# EAGLE library part QX9920 (library dc-dc)
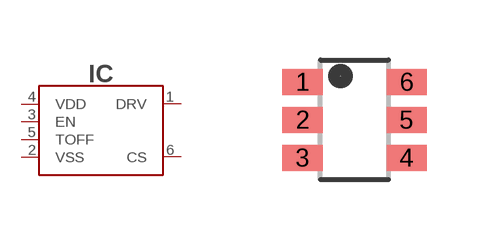
[diagram p7: symbol with the pads of SOT23-6; footprint SOT23-6]

Designator prefix IC

## QX9920 (LCSC#: C236055; MANF: QX Micro Devices; MANF#: QX9920)  [SOT23-6]
1  DRV
2  VSS
3  EN
4  VDD
5  TOFF
6  CS

## Footprint SOT23-6 (pad centres in mm)
smd 1 x 0.65: 1 -1.3,0.95; 2 -1.3,0; 3 -1.3,-0.95; 4 1.3,-0.95; 5 1.3,0; 6 1.3,0.95